# EAGLE library part 560020-08? (library con-molex-duraclik)
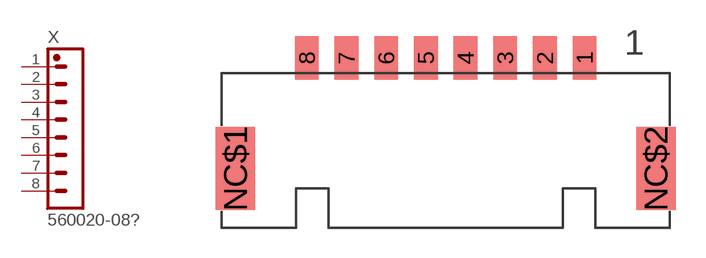
[diagram p0: symbol with the pads of 560020-08; footprint 560020-08]

Designator prefix X

## 560020-0820 (COLOR: Natural; PLATING: Sn; VALUE: 560020-0820), 560020-0821 (COLOR: Black; PLATING: Sn; VALUE: 560020-0821), 560020-0822 (COLOR: Red; PLATING: Sn; VALUE: 560020-0822), 560020-0823 (COLOR: Blue; PLATING: Sn; VALUE: 560020-0823), 560020-0830 (COLOR: Natural; PLATING: Au; VALUE: 560020-0830)  [560020-08]
1  1  pas
2  2  pas
3  3  pas
4  4  pas
5  5  pas
6  6  pas
7  7  pas
8  8  pas

## Footprint 560020-08 (pad centres in mm)
smd 1.2 x 2.2: 1 7,5.58; 2 5,5.58; 3 3,5.58; 4 1,5.58; 5 -1,5.58; 6 -3,5.58; 7 -5,5.58; 8 -7,5.58
smd 2 x 4.2: NC$1 -10.6,0; NC$2 10.6,0